# EAGLE library part TEXAS_INSTRUMENTS-BUCK_CONTROLLER-LM5116 (library Module_Regulators)
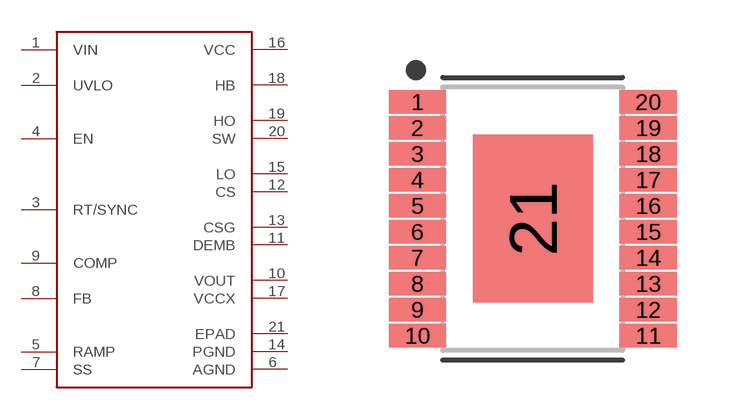
[diagram p29: symbol with the pads of TEXAS_INSTRUMENTS-BUCK_CONTROLLER-LM5116; footprint TEXAS_INSTRUMENTS-BUCK_CONTROLLER-LM5116]

Designator prefix U

## TEXAS_INSTRUMENTS-BUCK_CONTROLLER-LM5116  [TEXAS_INSTRUMENTS-BUCK_CONTROLLER-LM5116]
1  VIN
2  UVLO
3  RT/SYNC
4  EN
5  RAMP
6  AGND
7  SS
8  FB
9  COMP
10  VOUT
11  DEMB
12  CS
13  CSG
14  PGND
15  LO
16  VCC
17  VCCX
18  HB
19  HO
20  SW
21  EPAD

## Footprint TEXAS_INSTRUMENTS-BUCK_CONTROLLER-LM5116 (pad centres in mm)
20-SOP, 0.65 mm pitch, 6.40 mm span, 6.50 X 4.40 X 1.00 mm body, 4.20 X 3.00 mm thermal pad 20-pin SOP package with 0.65 mm pitch, 6.40 mm span with body size 6.50 X 4.40 X 1.00 mm and thermal pad size 4.20 X 3.00 mm
smd 1.437 x 0.592: 1 -2.887,2.925; 2 -2.887,2.275; 3 -2.887,1.625; 4 -2.887,0.975; 5 -2.887,0.325; 6 -2.887,-0.325; 7 -2.887,-0.975; 8 -2.887,-1.625; 9 -2.887,-2.275; 10 -2.887,-2.925; 11 2.887,-2.925; 12 2.887,-2.275; 13 2.887,-1.625; 14 2.887,-0.975; 15 2.887,-0.325; 16 2.887,0.325; 17 2.887,0.975; 18 2.887,1.625; 19 2.887,2.275; 20 2.887,2.925
smd 3 x 4.2: 21 0,0